# EAGLE library part SCM1301A (library dc-dc)
High-Efficiency Wide Input-Voltage-Range 1A Buck Regulator
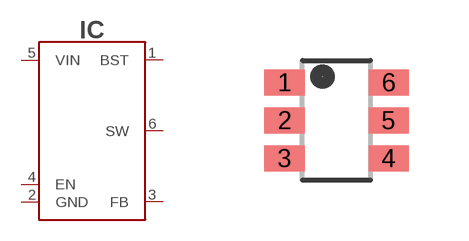
[diagram p5: symbol with the pads of SOT23-6; footprint SOT23-6]

Designator prefix IC

## SCM1301A (MANF: Mornsun; MANF#: SCM1301A)  [SOT23-6]
1  BST
2  GND
3  FB
4  EN
5  VIN
6  SW

## Footprint SOT23-6 (pad centres in mm)
smd 1 x 0.65: 1 -1.3,0.95; 2 -1.3,0; 3 -1.3,-0.95; 4 1.3,-0.95; 5 1.3,0; 6 1.3,0.95